# Altium footprint library NSD1512S12.PcbLib: 1 footprints
Each footprint in its own frame and in the unit in brackets; x right, y up, seen from the top. Pads: shape width x height; smd on the part's side, far side on the other; paste and mask are expansions set on the pad; w line width, h text height; cw(c..) or ccw(c..) is an arc to the next point about the centre after c.
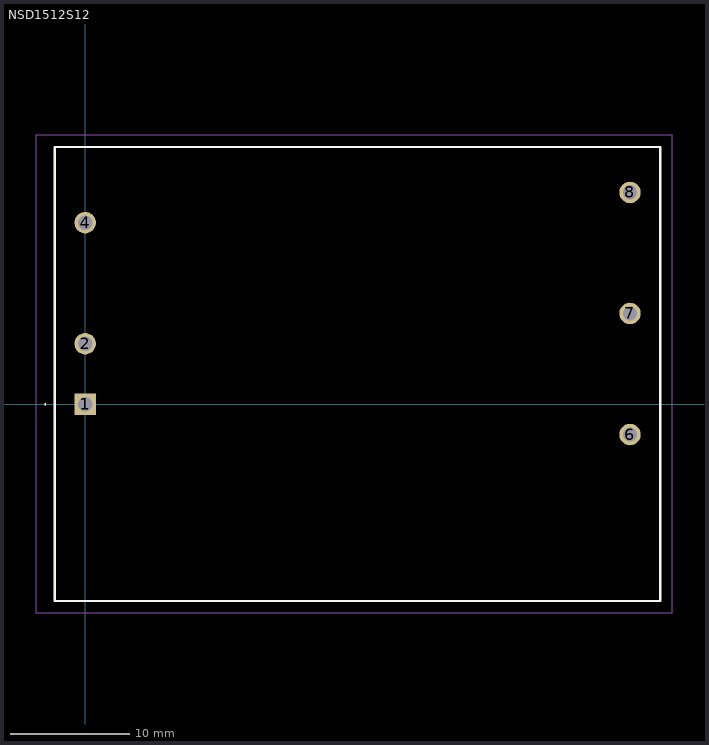
[diagram p0: the footprint, top view; thin cyan lines are the x and y axes]

## NSD1512S12 [mm]
pads (6):
  rect 1.8x1.8 hole 1.2: 1(0,0)
  round 1.8 hole 1.2: 2(0,5.08) 4(0,15.24) 6(45.72,-2.54) 7(45.72,7.62) 8(45.72,17.78)
Top Overlay:
  lines w0.1: -3.4,0 -3.4,0 ; -3.4,0 ccw(c-3.35,0) -3.3,0 ; -3.4,0 cw(c-3.35,0) -3.3,0 ; -3.3,0 -3.3,0
  lines w0.2: -2.54,-16.51 48.26,-16.51 48.26,21.59 -2.54,21.59 -2.54,-16.51
Mechanical 15:
  lines w0.1: -2.54,-16.51 48.26,-16.51 48.26,21.59 -2.54,21.59 -2.54,-16.51
Mechanical 20:
  lines w0.1: -4.14,-17.51 49.26,-17.51 49.26,22.59 -4.14,22.59 -4.14,-17.51